# EAGLE library part TLV9001SIDCKR (library TLV9001SIDCKR)
Operational Amplifiers - Op Amps 1-Channel, 1MHz, RRIO, 1.8V to 5.5V Operational Amplifier for Cost-Optimized Systems 6-SC70 -40 to 125 Source: Datasheet <https://www.ti.com/lit/ds/symlink/tlv9001.pdf?&ts=1589463649736>
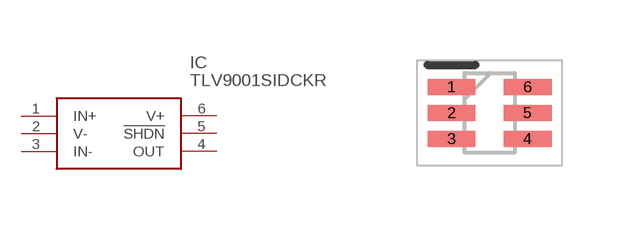
[diagram p0: symbol with the pads of SOT65P210X110-6N; footprint SOT65P210X110-6N]

Designator prefix IC

## TLV9001SIDCKR (Arrow_Part_Number: TLV9001SIDCKR; Arrow_Price-Stock: https://www.arrow.com/en/products/tlv9001sidckr/texas-instruments?region=nac; Description: Operational Amplifiers - Op Amps 1-Channel, 1MHz, RRIO, 1.8V to 5.5V Operational Amplifier for Cost-Optimized Systems 6-SC70 -40 to 125; Height: 1.1mm; Manufacturer_Name: Texas Instruments; Manufacturer_Part_Number: TLV9001SIDCKR; Mouser_Part_Number: 595-TLV9001SIDCKR; Mouser_Price-Stock: https://www.mouser.co.uk/ProductDetail/Texas-Instruments/TLV9001SIDCKR?qs=OlC7AqGiEDm%252BHGQGq0Yv1w%3D%3D)  [SOT65P210X110-6N]
1  IN+
2  V-
3  IN-
4  OUT
5  !SHDN
6  V+

## Footprint SOT65P210X110-6N (pad centres in mm)
DCK (R-PDSO-G6)
smd 1.2 x 0.4: 1 -0.95,0.65; 2 -0.95,0; 3 -0.95,-0.65; 4 0.95,-0.65; 5 0.95,0; 6 0.95,0.65